# Altium footprint library WSON-8.PcbLib: 1 footprints
Each footprint in its own frame and in the unit in brackets; x right, y up, seen from the top. Pads: shape width x height; smd on the part's side, far side on the other; paste and mask are expansions set on the pad; w line width, h text height; cw(c..) or ccw(c..) is an arc to the next point about the centre after c.
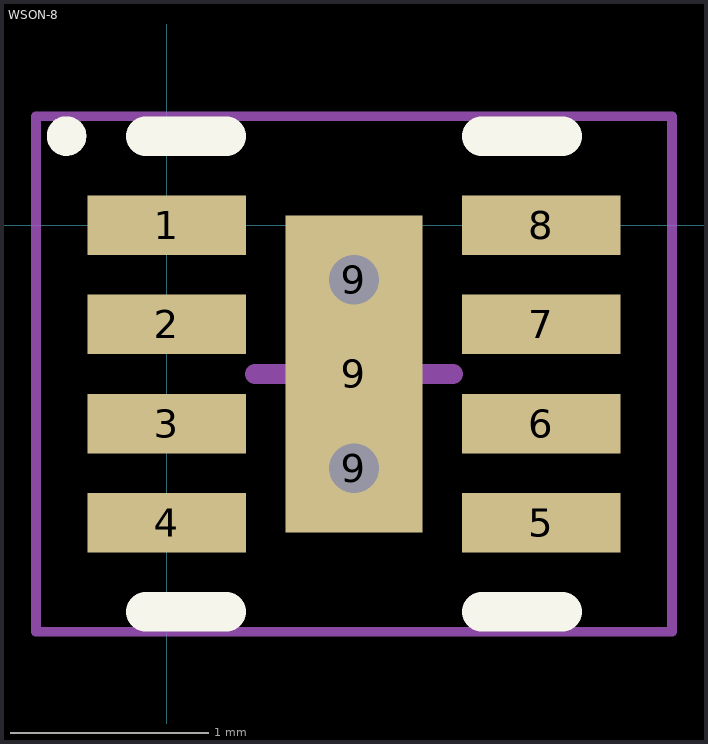
[diagram p0: the footprint, top view; thin cyan lines are the x and y axes]

## WSON-8 [mm]
height 0.8
pads (11):
  rect 0.8x0.3 smd: 1(0,0) 2(0,-0.5) 3(0,-1) 4(0,-1.5) 5(1.89,-1.5) 6(1.89,-1) 7(1.89,-0.5) 8(1.89,0)
  round 0.5 hole 0.25: 9(0.945,-1.225) 9(0.945,-0.275)
  rect 0.69x1.6 smd: 9(0.945,-0.75)
Top Overlay:
  circle w0.1: c-0.505,0.45 r0.05
  lines w0.2: -0.105,-1.95 0.3,-1.95 ; -0.105,0.45 0.3,0.45 ; 1.59,-1.95 1.995,-1.95 ; 1.59,0.45 1.995,0.45
Mechanical 15:
  lines w0.05: -0.66,-2.05 -0.66,0.55 2.55,0.55 2.55,-2.05 -0.66,-2.05
  lines w0.1: 0.445,-0.75 1.445,-0.75 ; 0.945,-1.25 0.945,-0.25
3D body "WSON-8.step": height 0.8, standoff 0, extent -0.155,-1.8 2.045,0.3